# EAGLE library part V24A12E400BG (library Kris)
VICOR Power V24A12E400BG 24-12 V DC-DC Switching Converter Converts a range of voltages around 24 V to 12 V with up to 400 W of output power.
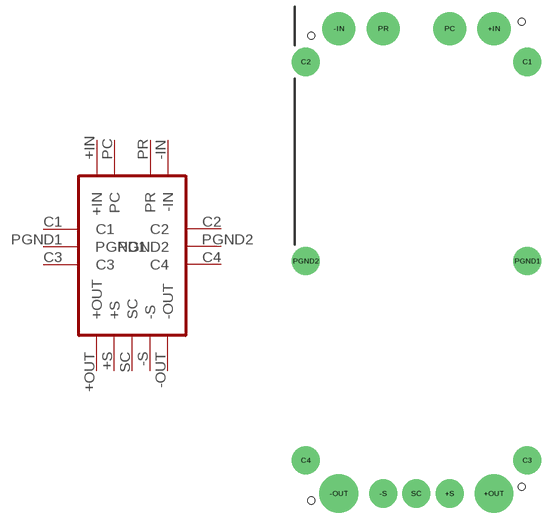
[diagram p0: symbol with the pads of V24A12C400BL_VICOR_24_12_DC_STEPDOWN; footprint V24A12C400BL_VICOR_24_12_DC_STEPDOWN]

Designator prefix -

## V24A12E400BG  [V24A12C400BL_VICOR_24_12_DC_STEPDOWN]
+IN  +IN  pwr
+OUT  +OUT  pwr
+S  +S  pwr
-IN  -IN  pwr
-OUT  -OUT  pwr
-S  -S  pwr
C1  C1  pwr
C2  C2  pwr
C3  C3  pwr
C4  C4  pwr
PC  PC
PGND1  PGND1  pwr
PGND2  PGND2  pwr
PR  PR
SC  SC

## Footprint V24A12C400BL_VICOR_24_12_DC_STEPDOWN (pad centres in mm)
VICOR 24V-12V DC-DC 400W STEP DOWN CONVERTER
drill 5.08 pad 7.62 round: +IN 17.78,53.34; -IN -17.78,53.34; PC 7.62,53.34; PR -7.62,53.34
drill 7.188 pad 8.89 round: +OUT 17.78,-53.34; -OUT -17.78,-53.34
drill 5.08 pad 6.452 round: +S 7.62,-53.34; -S -7.62,-53.34; SC 0,-53.34
drill 3.302 pad 6.452 round: C1 25.4,45.72; C2 -25.4,45.72; C3 25.4,-45.72; C4 -25.4,-45.72; PGND1 25.4,0; PGND2 -25.4,0
hole 1.626 at 24.13,-51.752
hole 1.626 at -24.13,-54.928
hole 1.626 at 24.13,54.928
hole 1.626 at -24.13,51.752